# EAGLE library part 87758-32 (library untitled)
HEADER
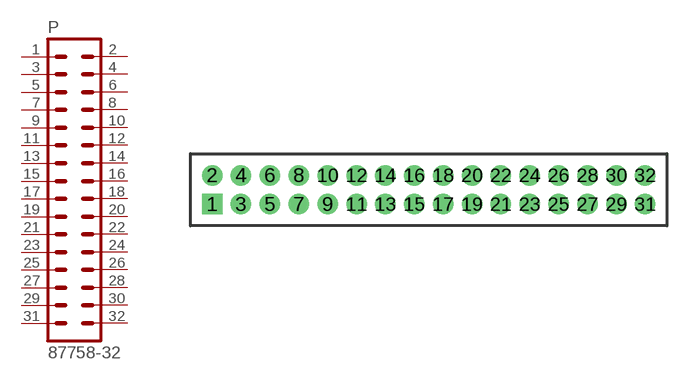
[diagram p13: symbol with the pads of 87758-32; footprint 87758-32]

Designator prefix P

## 87758-32  [87758-32]
1  1  pas
2  2  pas
3  3  pas
4  4  pas
5  5  pas
6  6  pas
7  7  pas
8  8  pas
9  9  pas
10  10  pas
11  11  pas
12  12  pas
13  13  pas
14  14  pas
15  15  pas
16  16  pas
17  17  pas
18  18  pas
19  19  pas
20  20  pas
21  21  pas
22  22  pas
23  23  pas
24  24  pas
25  25  pas
26  26  pas
27  27  pas
28  28  pas
29  29  pas
30  30  pas
31  31  pas
32  32  pas

## Footprint 87758-32 (pad centres in mm)
HEADER Dual Row, Vertical
drill 0.914 square: 1 -15,-1
drill 0.914 round: 2 -15,1; 3 -13,-1; 4 -13,1; 5 -11,-1; 6 -11,1; 7 -9,-1; 8 -9,1; 9 -7,-1; 10 -7,1; 11 -5,-1; 12 -5,1; 13 -3,-1; 14 -3,1; 15 -1,-1; 16 -1,1; 17 1,-1; 18 1,1; 19 3,-1; 20 3,1; 21 5,-1; 22 5,1; 23 7,-1; 24 7,1; 25 9,-1; 26 9,1; 27 11,-1; 28 11,1; 29 13,-1; 30 13,1; 31 15,-1; 32 15,1